# EAGLE library part TRANS-1/2 (library _Transformers)
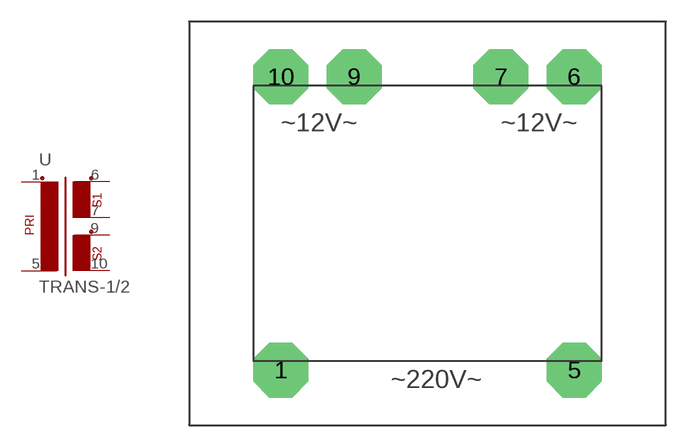
[diagram p0: symbol with the pads of 32.5-27.5-22; footprint 32.5-27.5-22]

Designator prefix -

## TRANS-1/2  [32.5-27.5-22]
1  P1-1  pas
5  P1-2  pas
6  S1-1  pas
7  S1-2  pas
9  S2-1  pas
10  S2-2  pas

## Footprint 32.5-27.5-22 (pad centres in mm)
drill 0.5 pad 3.81 octagon: 1 -10.16,-10.16; 5 10.16,-10.16; 6 10.16,10.16; 7 5.08,10.16; 9 -5.08,10.16; 10 -10.16,10.16